# EAGLE library part DUAL-SERVO (library magzor)
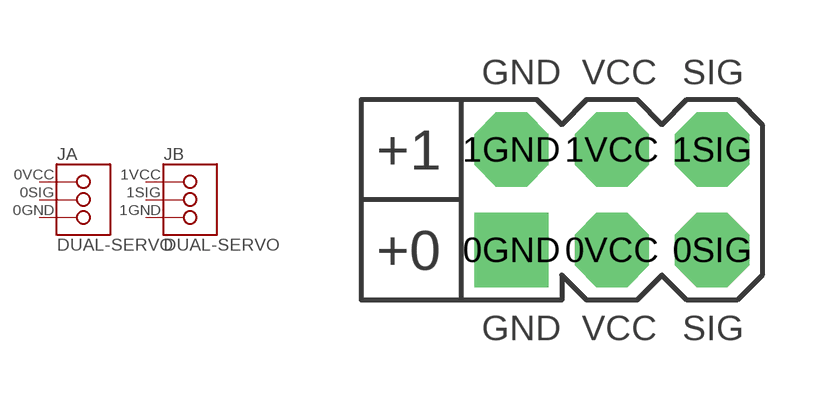
[diagram p9: symbol with the pads of HEADER-2X03-DUAL-SERVO; footprint HEADER-2X03-DUAL-SERVO]

Designator prefix J; gates A=HEADER-1X03 B=HEADER-1X03

## DUAL-SERVO  [HEADER-2X03-DUAL-SERVO]
0GND  A:3
0SIG  A:2
0VCC  A:1
1GND  B:3
1SIG  B:2
1VCC  B:1

## Footprint HEADER-2X03-DUAL-SERVO (pad centres in mm)
drill 1.016 pad 1.88 square: 0GND -2.54,-1.27
drill 1.016 pad 1.88 octagon: 0SIG 2.54,-1.27; 0VCC 0,-1.27; 1GND -2.54,1.27; 1SIG 2.54,1.27; 1VCC 0,1.27